# Altium footprint library 2mm pin cap.PcbLib: 1 footprints
Each footprint in its own frame and in the unit in brackets; x right, y up, seen from the top. Pads: shape width x height; smd on the part's side, far side on the other; paste and mask are expansions set on the pad; w line width, h text height; cw(c..) or ccw(c..) is an arc to the next point about the centre after c.
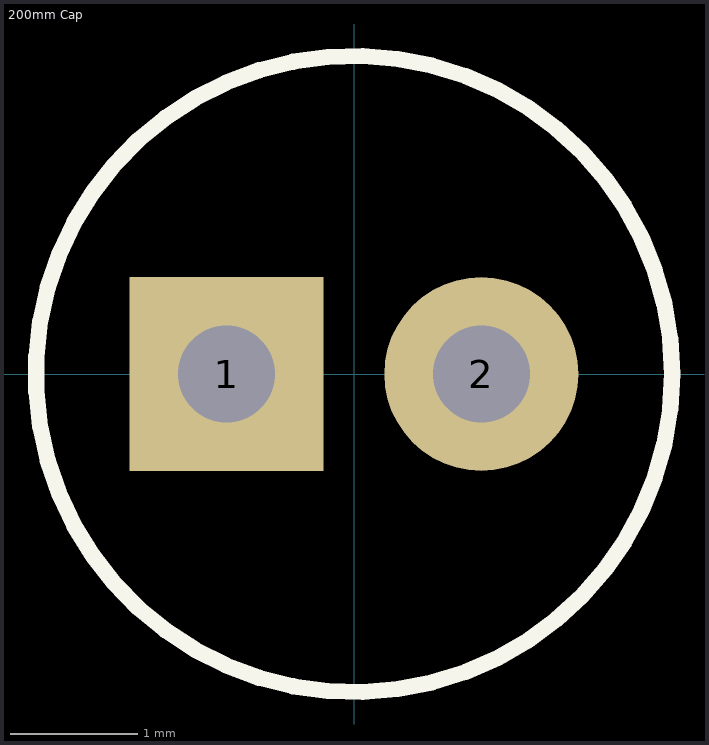
[diagram p0: the footprint, top view; thin cyan lines are the x and y axes]

## 200mm Cap [mil]
height 196.85
pads (2):
  rect 60x60 hole 30 square: 1(-39.37,0)
  round 60 hole 30: 2(39.37,0)
Top Overlay:
  circle w5: c0,0 r98.43